# EAGLE library part 74*595 (library FansElectronics-IC-74xx)
74**595 : 8 bit Shift Register
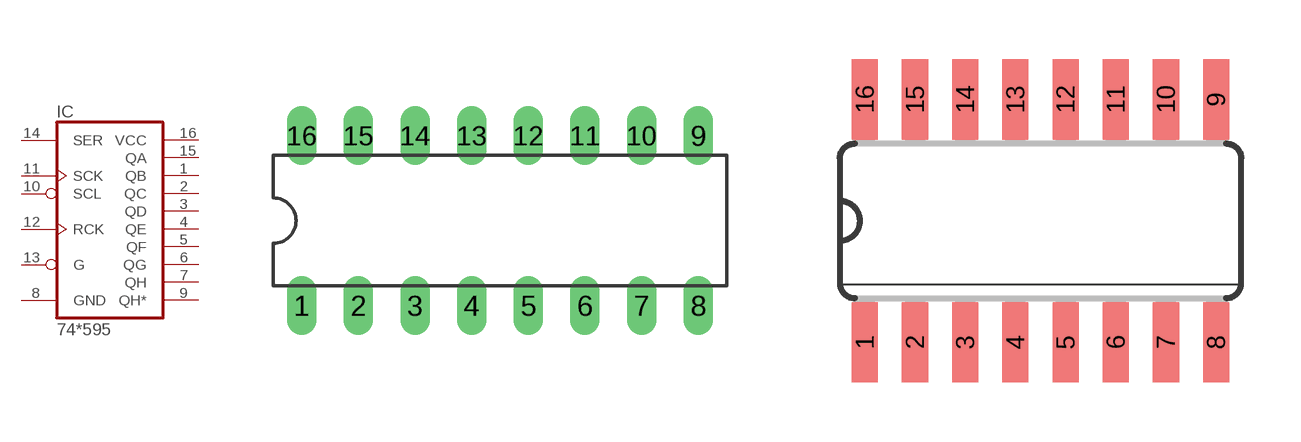
[diagram p0: symbol with the pads of DIL16; footprints DIL16, SO16]

Designator prefix IC

## 74HC595N, 74LS595N  [DIL16]
1  QB  hiz
2  QC  hiz
3  QD  hiz
4  QE  hiz
5  QF  hiz
6  QG  hiz
7  QH  hiz
8  GND
9  QH*  hiz
10  SCL  in
11  SCK  in
12  RCK  in
13  G  in
14  SER  in
15  QA  hiz
16  VCC

## 74HC595D, 74LS595D  [SO16]
Pads as for DIL16

## Footprint DIL16 (pad centres in mm)
drill 0.813 long: 1 -8.89,-3.81; 2 -6.35,-3.81; 3 -3.81,-3.81; 4 -1.27,-3.81; 5 1.27,-3.81; 6 3.81,-3.81; 7 6.35,-3.81; 8 8.89,-3.81; 9 8.89,3.81; 10 6.35,3.81; 11 3.81,3.81; 12 1.27,3.81; 13 -1.27,3.81; 14 -3.81,3.81; 15 -6.35,3.81; 16 -8.89,3.81

## Footprint SO16 (pad centres in mm)
smd 0.66 x 2.032: 1 -4.445,-3.073; 2 -3.175,-3.073; 3 -1.905,-3.073; 4 -0.635,-3.073; 5 0.635,-3.073; 6 1.905,-3.073; 7 3.175,-3.073; 8 4.445,-3.073; 9 4.445,3.073; 10 3.175,3.073; 11 1.905,3.073; 12 0.635,3.073; 13 -0.635,3.073; 14 -1.905,3.073; 15 -3.175,3.073; 16 -4.445,3.073